# EAGLE library part DPDT-X2 (library RemoteParts)
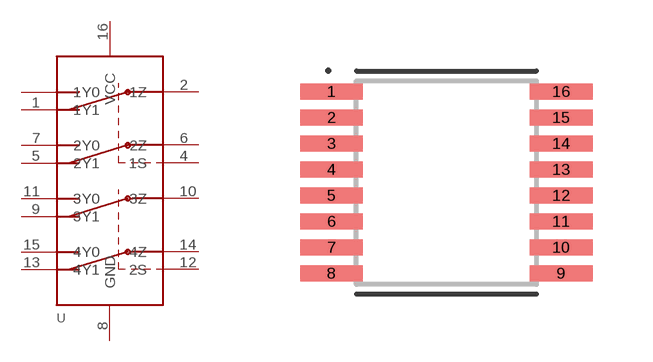
[diagram p1: symbol with the pads of SOP65P640X110-16; footprint SOP65P640X110-16]

Designator prefix U

## DPDT-X2 (CREATOR: Swanson; DESC: IC ANALOG SWITCH DPDT 16TSSOP; DIST: DIGIKEY; DISTPN: 568-5300-1-ND; MFR: NXP USA Inc.; MOUNTING: SMD; MPN: NX3L2467PW,118)  [SOP65P640X110-16]
1  1Y1
2  1Z
3  1Y0
4  1S
5  2Y1
6  2Z
7  2Y0
8  GND
9  3Y1
10  3Z
11  3Y0
12  2S
13  4Y1
14  4Z
15  4Y0
16  VCC

## Footprint SOP65P640X110-16 (pad centres in mm)
16-SOP, 0.65 mm pitch, 6.4 mm span, 5 X 4.4 X 1.1 mm body 16-pin SOP package with 0.65 mm pitch, 6.4 mm span with body size 5 X 4.4 X 1.1 mm
smd 1.572 x 0.407: 1 -2.872,2.275; 2 -2.872,1.625; 3 -2.872,0.975; 4 -2.872,0.325; 5 -2.872,-0.325; 6 -2.872,-0.975; 7 -2.872,-1.625; 8 -2.872,-2.275; 9 2.872,-2.275; 10 2.872,-1.625; 11 2.872,-0.975; 12 2.872,-0.325; 13 2.872,0.325; 14 2.872,0.975; 15 2.872,1.625; 16 2.872,2.275